# EAGLE library part XCV100E_BG352 (library xilinx-xcv)
xcv100e_bg352 edit this description Auto generated by make-symbol-device-package-bsdl.ulp Rev. 26 Source: xcv100e_bg352.bsd
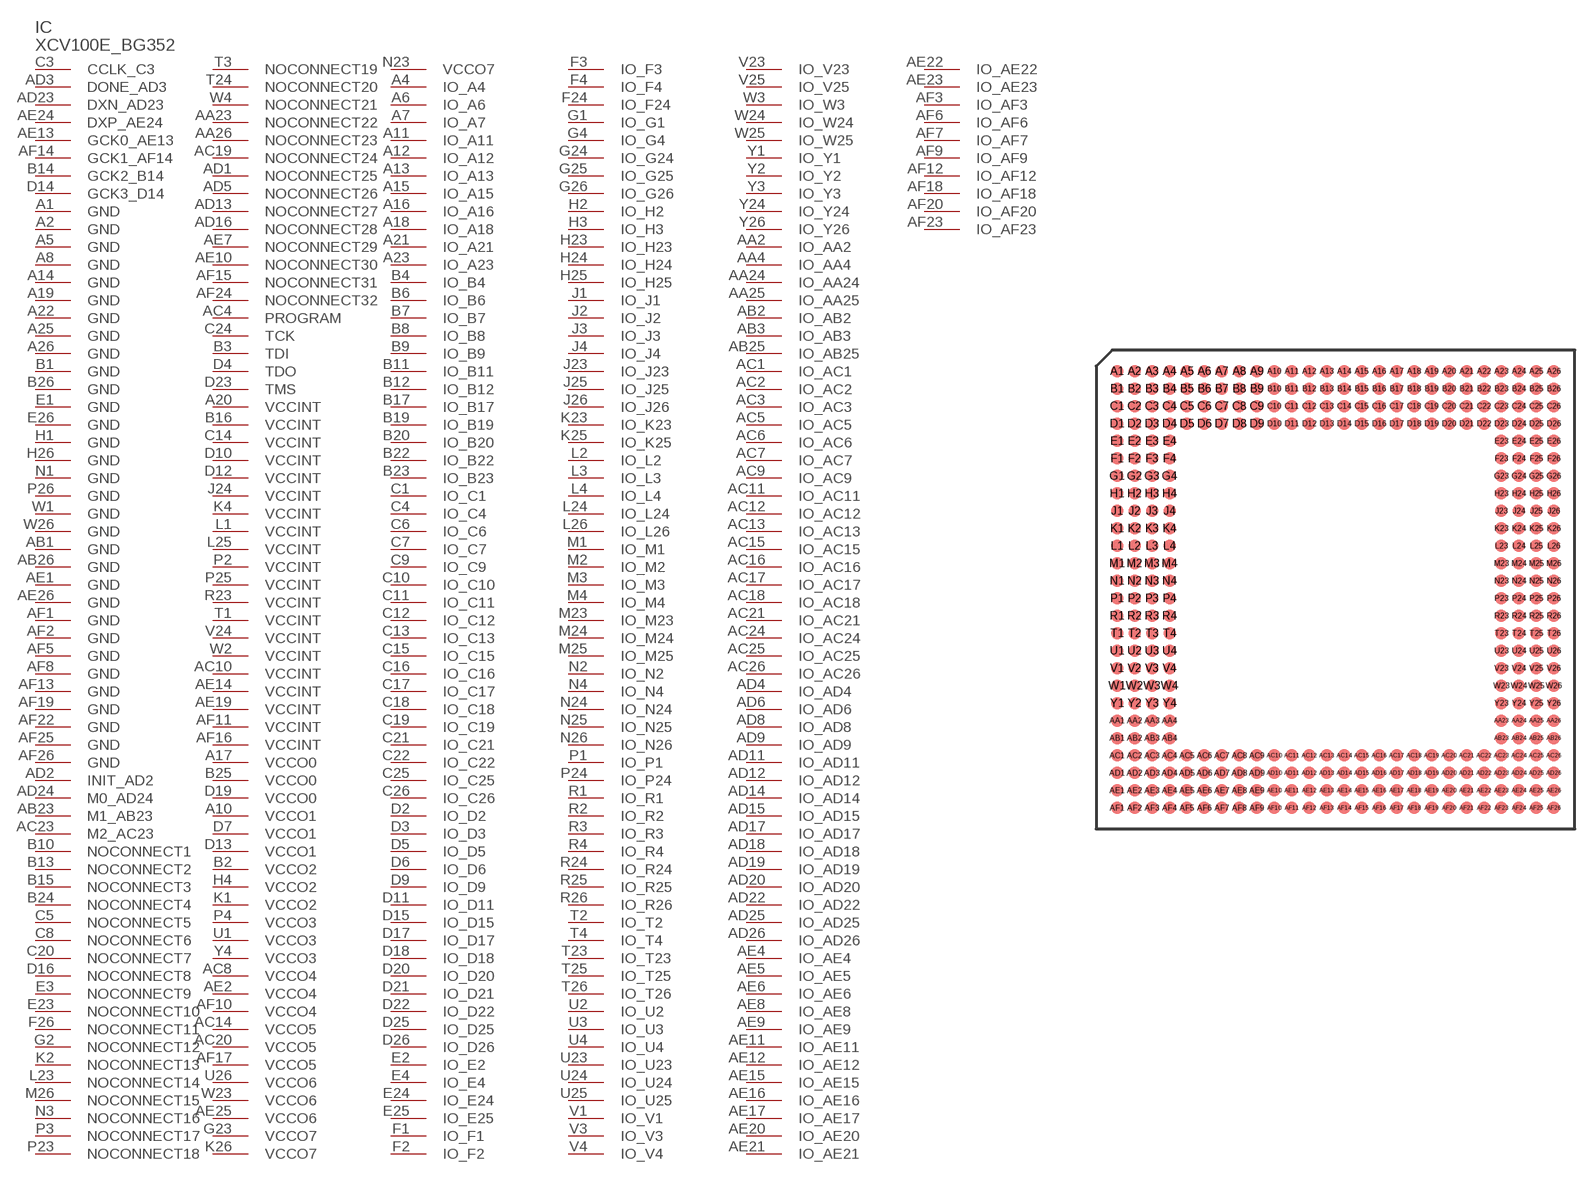
[diagram p20: symbol with the pads of BG352; footprint BG352]

Designator prefix IC

## XCV100E_BG352 (OC_FARNELL: unknown; OC_NEWARK: unknown)  [BG352]
A1  GND  pwr
A2  GND  pwr
A4  IO_A4
A5  GND  pwr
A6  IO_A6
A7  IO_A7
A8  GND  pwr
A10  VCCO1  pwr
A11  IO_A11
A12  IO_A12
A13  IO_A13
A14  GND  pwr
A15  IO_A15
A16  IO_A16
A17  VCCO0  pwr
A18  IO_A18
A19  GND  pwr
A20  VCCINT  pwr
A21  IO_A21
A22  GND  pwr
A23  IO_A23
A25  GND  pwr
A26  GND  pwr
AA2  IO_AA2
AA4  IO_AA4
AA23  NOCONNECT22  pas
AA24  IO_AA24
AA25  IO_AA25
AA26  NOCONNECT23  pas
AB1  GND  pwr
AB2  IO_AB2
AB3  IO_AB3
AB23  M1_AB23  in
AB25  IO_AB25
AB26  GND  pwr
AC1  IO_AC1
AC2  IO_AC2
AC3  IO_AC3
AC4  PROGRAM  in
AC5  IO_AC5
AC6  IO_AC6
AC7  IO_AC7
AC8  VCCO4  pwr
AC9  IO_AC9
AC10  VCCINT  pwr
AC11  IO_AC11
AC12  IO_AC12
AC13  IO_AC13
AC14  VCCO5  pwr
AC15  IO_AC15
AC16  IO_AC16
AC17  IO_AC17
AC18  IO_AC18
AC19  NOCONNECT24  pas
AC20  VCCO5  pwr
AC21  IO_AC21
AC23  M2_AC23  in
AC24  IO_AC24
AC25  IO_AC25
AC26  IO_AC26
AD1  NOCONNECT25  pas
AD2  INIT_AD2
AD3  DONE_AD3
AD4  IO_AD4
AD5  NOCONNECT26  pas
AD6  IO_AD6
AD8  IO_AD8
AD9  IO_AD9
AD11  IO_AD11
AD12  IO_AD12
AD13  NOCONNECT27  pas
AD14  IO_AD14
AD15  IO_AD15
AD16  NOCONNECT28  pas
AD17  IO_AD17
AD18  IO_AD18
AD19  IO_AD19
AD20  IO_AD20
AD22  IO_AD22
AD23  DXN_AD23  pas
AD24  M0_AD24  in
AD25  IO_AD25
AD26  IO_AD26
AE1  GND  pwr
AE2  VCCO4  pwr
AE4  IO_AE4
AE5  IO_AE5
AE6  IO_AE6
AE7  NOCONNECT29  pas
AE8  IO_AE8
AE9  IO_AE9
AE10  NOCONNECT30  pas
AE11  IO_AE11
AE12  IO_AE12
AE13  GCK0_AE13  in
AE14  VCCINT  pwr
AE15  IO_AE15
AE16  IO_AE16
AE17  IO_AE17
AE19  VCCINT  pwr
AE20  IO_AE20
AE21  IO_AE21
AE22  IO_AE22
AE23  IO_AE23
AE24  DXP_AE24  pas
AE25  VCCO6  pwr
AE26  GND  pwr
AF1  GND  pwr
AF2  GND  pwr
AF3  IO_AF3
AF5  GND  pwr
AF6  IO_AF6
AF7  IO_AF7
AF8  GND  pwr
AF9  IO_AF9
AF10  VCCO4  pwr
AF11  VCCINT  pwr
AF12  IO_AF12
AF13  GND  pwr
AF14  GCK1_AF14  in
AF15  NOCONNECT31  pas
AF16  VCCINT  pwr
AF17  VCCO5  pwr
AF18  IO_AF18
AF19  GND  pwr
AF20  IO_AF20
AF22  GND  pwr
AF23  IO_AF23
AF24  NOCONNECT32  pas
AF25  GND  pwr
AF26  GND  pwr
B1  GND  pwr
B2  VCCO2  pwr
B3  TDI  in
B4  IO_B4
B6  IO_B6
B7  IO_B7
B8  IO_B8
B9  IO_B9
B10  NOCONNECT1  pas
B11  IO_B11
B12  IO_B12
B13  NOCONNECT2  pas
B14  GCK2_B14  in
B15  NOCONNECT3  pas
B16  VCCINT  pwr
B17  IO_B17
B19  IO_B19
B20  IO_B20
B22  IO_B22
B23  IO_B23
B24  NOCONNECT4  pas
B25  VCCO0  pwr
B26  GND  pwr
C1  IO_C1
C3  CCLK_C3
C4  IO_C4
C5  NOCONNECT5  pas
C6  IO_C6
C7  IO_C7
C8  NOCONNECT6  pas
C9  IO_C9
C10  IO_C10
C11  IO_C11
C12  IO_C12
C13  IO_C13
C14  VCCINT  pwr
C15  IO_C15
C16  IO_C16
C17  IO_C17
C18  IO_C18
C19  IO_C19
C20  NOCONNECT7  pas
C21  IO_C21
C22  IO_C22
C24  TCK  in
C25  IO_C25
C26  IO_C26
D2  IO_D2
D3  IO_D3
D4  TDO  out
D5  IO_D5
D6  IO_D6
D7  VCCO1  pwr
D9  IO_D9
D10  VCCINT  pwr
D11  IO_D11
D12  VCCINT  pwr
D13  VCCO1  pwr
D14  GCK3_D14  in
D15  IO_D15
D16  NOCONNECT8  pas
D17  IO_D17
D18  IO_D18
D19  VCCO0  pwr
D20  IO_D20
D21  IO_D21
D22  IO_D22
D23  TMS  in
D25  IO_D25
D26  IO_D26
E1  GND  pwr
E2  IO_E2
E3  NOCONNECT9  pas
E4  IO_E4
E23  NOCONNECT10  pas
E24  IO_E24
E25  IO_E25
E26  GND  pwr
F1  IO_F1
F2  IO_F2
F3  IO_F3
F4  IO_F4
F24  IO_F24
F26  NOCONNECT11  pas
G1  IO_G1
G2  NOCONNECT12  pas
G4  IO_G4
G23  VCCO7  pwr
G24  IO_G24
G25  IO_G25
G26  IO_G26
H1  GND  pwr
H2  IO_H2
H3  IO_H3
H4  VCCO2  pwr
H23  IO_H23
H24  IO_H24
H25  IO_H25
H26  GND  pwr
J1  IO_J1
J2  IO_J2
J3  IO_J3
J4  IO_J4
J23  IO_J23
J24  VCCINT  pwr
J25  IO_J25
J26  IO_J26
K1  VCCO2  pwr
K2  NOCONNECT13  pas
K4  VCCINT  pwr
K23  IO_K23
K25  IO_K25
K26  VCCO7  pwr
L1  VCCINT  pwr
L2  IO_L2
L3  IO_L3
L4  IO_L4
L23  NOCONNECT14  pas
L24  IO_L24
L25  VCCINT  pwr
L26  IO_L26
M1  IO_M1
M2  IO_M2
M3  IO_M3
M4  IO_M4
M23  IO_M23
M24  IO_M24
M25  IO_M25
M26  NOCONNECT15  pas
N1  GND  pwr
N2  IO_N2
N3  NOCONNECT16  pas
N4  IO_N4
N23  VCCO7  pwr
N24  IO_N24
N25  IO_N25
N26  IO_N26
P1  IO_P1
P2  VCCINT  pwr
P3  NOCONNECT17  pas
P4  VCCO3  pwr
P23  NOCONNECT18  pas
P24  IO_P24
P25  VCCINT  pwr
P26  GND  pwr
R1  IO_R1
R2  IO_R2
R3  IO_R3
R4  IO_R4
R23  VCCINT  pwr
R24  IO_R24
R25  IO_R25
R26  IO_R26
T1  VCCINT  pwr
T2  IO_T2
T3  NOCONNECT19  pas
T4  IO_T4
T23  IO_T23
T24  NOCONNECT20  pas
T25  IO_T25
T26  IO_T26
U1  VCCO3  pwr
U2  IO_U2
U3  IO_U3
U4  IO_U4
U23  IO_U23
U24  IO_U24
U25  IO_U25
U26  VCCO6  pwr
V1  IO_V1
V3  IO_V3
V4  IO_V4
V23  IO_V23
V24  VCCINT  pwr
V25  IO_V25
W1  GND  pwr
W2  VCCINT  pwr
W3  IO_W3
W4  NOCONNECT21  pas
W23  VCCO6  pwr
W24  IO_W24
W25  IO_W25
W26  GND  pwr
Y1  IO_Y1
Y2  IO_Y2
Y3  IO_Y3
Y4  VCCO3  pwr
Y24  IO_Y24
Y26  IO_Y26

## Footprint BG352 (pad centres in mm)
xcv100e_bg352 edit this description Auto generated by make-symbol-device-package-bsdl.ulp Rev. 26 Source: xcv100e_bg352.bsd
smd 0.9 x 0.9: A1 -15.875,15.875; A2 -14.605,15.875; A3 -13.335,15.875; A4 -12.065,15.875; A5 -10.795,15.875; A6 -9.525,15.875; A7 -8.255,15.875; A8 -6.985,15.875; A9 -5.715,15.875; A10 -4.445,15.875; A11 -3.175,15.875; A12 -1.905,15.875; A13 -0.635,15.875; A14 0.635,15.875; A15 1.905,15.875; A16 3.175,15.875; A17 4.445,15.875; A18 5.715,15.875; A19 6.985,15.875; A20 8.255,15.875; A21 9.525,15.875; A22 10.795,15.875; A23 12.065,15.875; A24 13.335,15.875; A25 14.605,15.875; A26 15.875,15.875; AA1 -15.875,-9.525; AA2 -14.605,-9.525; AA3 -13.335,-9.525; AA4 -12.065,-9.525; AA23 12.065,-9.525; AA24 13.335,-9.525; AA25 14.605,-9.525; AA26 15.875,-9.525; AB1 -15.875,-10.795; AB2 -14.605,-10.795; AB3 -13.335,-10.795; AB4 -12.065,-10.795; AB23 12.065,-10.795; AB24 13.335,-10.795; AB25 14.605,-10.795; AB26 15.875,-10.795; AC1 -15.875,-12.065; AC2 -14.605,-12.065; AC3 -13.335,-12.065; AC4 -12.065,-12.065; AC5 -10.795,-12.065; AC6 -9.525,-12.065; AC7 -8.255,-12.065; AC8 -6.985,-12.065; AC9 -5.715,-12.065; AC10 -4.445,-12.065; AC11 -3.175,-12.065; AC12 -1.905,-12.065; AC13 -0.635,-12.065; AC14 0.635,-12.065; AC15 1.905,-12.065; AC16 3.175,-12.065; AC17 4.445,-12.065; AC18 5.715,-12.065; AC19 6.985,-12.065; AC20 8.255,-12.065; AC21 9.525,-12.065; AC22 10.795,-12.065; AC23 12.065,-12.065; AC24 13.335,-12.065; AC25 14.605,-12.065; AC26 15.875,-12.065; AD1 -15.875,-13.335; AD2 -14.605,-13.335; AD3 -13.335,-13.335; AD4 -12.065,-13.335; AD5 -10.795,-13.335; AD6 -9.525,-13.335; AD7 -8.255,-13.335; AD8 -6.985,-13.335; AD9 -5.715,-13.335; AD10 -4.445,-13.335; AD11 -3.175,-13.335; AD12 -1.905,-13.335; AD13 -0.635,-13.335; AD14 0.635,-13.335; AD15 1.905,-13.335; AD16 3.175,-13.335; AD17 4.445,-13.335; AD18 5.715,-13.335; AD19 6.985,-13.335; AD20 8.255,-13.335; AD21 9.525,-13.335; AD22 10.795,-13.335; AD23 12.065,-13.335; AD24 13.335,-13.335; AD25 14.605,-13.335; AD26 15.875,-13.335; AE1 -15.875,-14.605; AE2 -14.605,-14.605; AE3 -13.335,-14.605; AE4 -12.065,-14.605; AE5 -10.795,-14.605; AE6 -9.525,-14.605; AE7 -8.255,-14.605; AE8 -6.985,-14.605; AE9 -5.715,-14.605; AE10 -4.445,-14.605; AE11 -3.175,-14.605; AE12 -1.905,-14.605; AE13 -0.635,-14.605; AE14 0.635,-14.605; AE15 1.905,-14.605; AE16 3.175,-14.605; AE17 4.445,-14.605; AE18 5.715,-14.605; AE19 6.985,-14.605; AE20 8.255,-14.605; AE21 9.525,-14.605; AE22 10.795,-14.605; AE23 12.065,-14.605; AE24 13.335,-14.605; AE25 14.605,-14.605; AE26 15.875,-14.605; AF1 -15.875,-15.875; AF2 -14.605,-15.875; AF3 -13.335,-15.875; AF4 -12.065,-15.875; AF5 -10.795,-15.875; AF6 -9.525,-15.875; AF7 -8.255,-15.875; AF8 -6.985,-15.875; AF9 -5.715,-15.875; AF10 -4.445,-15.875; AF11 -3.175,-15.875; AF12 -1.905,-15.875; AF13 -0.635,-15.875; AF14 0.635,-15.875; AF15 1.905,-15.875; AF16 3.175,-15.875; AF17 4.445,-15.875; AF18 5.715,-15.875; AF19 6.985,-15.875; AF20 8.255,-15.875; AF21 9.525,-15.875; AF22 10.795,-15.875; AF23 12.065,-15.875; AF24 13.335,-15.875; AF25 14.605,-15.875; AF26 15.875,-15.875; B1 -15.875,14.605; B2 -14.605,14.605; B3 -13.335,14.605; B4 -12.065,14.605; B5 -10.795,14.605; B6 -9.525,14.605; B7 -8.255,14.605; B8 -6.985,14.605; B9 -5.715,14.605; B10 -4.445,14.605; B11 -3.175,14.605; B12 -1.905,14.605; B13 -0.635,14.605; B14 0.635,14.605; B15 1.905,14.605; B16 3.175,14.605; B17 4.445,14.605; B18 5.715,14.605; B19 6.985,14.605; B20 8.255,14.605; B21 9.525,14.605; B22 10.795,14.605; B23 12.065,14.605; B24 13.335,14.605; B25 14.605,14.605; B26 15.875,14.605; C1 -15.875,13.335; C2 -14.605,13.335; C3 -13.335,13.335; C4 -12.065,13.335; C5 -10.795,13.335; C6 -9.525,13.335; C7 -8.255,13.335; C8 -6.985,13.335; C9 -5.715,13.335; C10 -4.445,13.335; C11 -3.175,13.335; C12 -1.905,13.335; C13 -0.635,13.335; C14 0.635,13.335; C15 1.905,13.335; C16 3.175,13.335; C17 4.445,13.335; C18 5.715,13.335; C19 6.985,13.335; C20 8.255,13.335; C21 9.525,13.335; C22 10.795,13.335; C23 12.065,13.335; C24 13.335,13.335; C25 14.605,13.335; C26 15.875,13.335; D1 -15.875,12.065; D2 -14.605,12.065; D3 -13.335,12.065; D4 -12.065,12.065; D5 -10.795,12.065; D6 -9.525,12.065; D7 -8.255,12.065; D8 -6.985,12.065; D9 -5.715,12.065; D10 -4.445,12.065; D11 -3.175,12.065; D12 -1.905,12.065; D13 -0.635,12.065; D14 0.635,12.065; D15 1.905,12.065; D16 3.175,12.065; D17 4.445,12.065; D18 5.715,12.065; D19 6.985,12.065; D20 8.255,12.065; D21 9.525,12.065; D22 10.795,12.065; D23 12.065,12.065; D24 13.335,12.065; D25 14.605,12.065; D26 15.875,12.065; E1 -15.875,10.795; E2 -14.605,10.795; E3 -13.335,10.795; E4 -12.065,10.795; E23 12.065,10.795; E24 13.335,10.795; E25 14.605,10.795; E26 15.875,10.795; F1 -15.875,9.525; F2 -14.605,9.525; F3 -13.335,9.525; F4 -12.065,9.525; F23 12.065,9.525; F24 13.335,9.525; F25 14.605,9.525; F26 15.875,9.525; G1 -15.875,8.255; G2 -14.605,8.255; G3 -13.335,8.255; G4 -12.065,8.255; G23 12.065,8.255; G24 13.335,8.255; G25 14.605,8.255; G26 15.875,8.255; H1 -15.875,6.985; H2 -14.605,6.985; H3 -13.335,6.985; H4 -12.065,6.985; H23 12.065,6.985; H24 13.335,6.985; H25 14.605,6.985; H26 15.875,6.985; J1 -15.875,5.715; J2 -14.605,5.715; J3 -13.335,5.715; J4 -12.065,5.715; J23 12.065,5.715; J24 13.335,5.715; J25 14.605,5.715; J26 15.875,5.715; K1 -15.875,4.445; K2 -14.605,4.445; K3 -13.335,4.445; K4 -12.065,4.445; K23 12.065,4.445; K24 13.335,4.445; K25 14.605,4.445; K26 15.875,4.445; L1 -15.875,3.175; L2 -14.605,3.175; L3 -13.335,3.175; L4 -12.065,3.175; L23 12.065,3.175; L24 13.335,3.175; L25 14.605,3.175; L26 15.875,3.175; M1 -15.875,1.905; M2 -14.605,1.905; M3 -13.335,1.905; M4 -12.065,1.905; M23 12.065,1.905; M24 13.335,1.905; M25 14.605,1.905; M26 15.875,1.905; N1 -15.875,0.635; N2 -14.605,0.635; N3 -13.335,0.635; N4 -12.065,0.635; N23 12.065,0.635; N24 13.335,0.635; N25 14.605,0.635; N26 15.875,0.635; P1 -15.875,-0.635; P2 -14.605,-0.635; P3 -13.335,-0.635; P4 -12.065,-0.635; P23 12.065,-0.635; P24 13.335,-0.635; P25 14.605,-0.635; P26 15.875,-0.635; R1 -15.875,-1.905; R2 -14.605,-1.905; R3 -13.335,-1.905; R4 -12.065,-1.905; R23 12.065,-1.905; R24 13.335,-1.905; R25 14.605,-1.905; R26 15.875,-1.905; T1 -15.875,-3.175; T2 -14.605,-3.175; T3 -13.335,-3.175; T4 -12.065,-3.175; T23 12.065,-3.175; T24 13.335,-3.175; T25 14.605,-3.175; T26 15.875,-3.175; U1 -15.875,-4.445; U2 -14.605,-4.445; U3 -13.335,-4.445; U4 -12.065,-4.445; U23 12.065,-4.445; U24 13.335,-4.445; U25 14.605,-4.445; U26 15.875,-4.445; V1 -15.875,-5.715; V2 -14.605,-5.715; V3 -13.335,-5.715; V4 -12.065,-5.715; V23 12.065,-5.715; V24 13.335,-5.715; V25 14.605,-5.715; V26 15.875,-5.715; W1 -15.875,-6.985; W2 -14.605,-6.985; W3 -13.335,-6.985; W4 -12.065,-6.985; W23 12.065,-6.985; W24 13.335,-6.985; W25 14.605,-6.985; W26 15.875,-6.985; Y1 -15.875,-8.255; Y2 -14.605,-8.255; Y3 -13.335,-8.255; Y4 -12.065,-8.255; Y23 12.065,-8.255; Y24 13.335,-8.255; Y25 14.605,-8.255; Y26 15.875,-8.255